# Altium schematic symbol library Connecteur InfraRouge.SchLib: 1 symbol
Pins are listed as number, name and electrical type; pins without a type are passive.

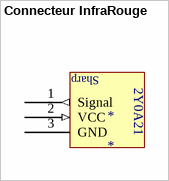
[diagram p0: symbol Connecteur InfraRouge]

## Connecteur InfraRouge
designator *
footprint Connecteur InfraRouge
pins: 1 Signal (out), 2 VCC (in), 3 GND
text: Sharp; 2Y0A21